# Altium schematic symbol library LT8336EV.Schlib: 1 symbol
Pins are listed as number, name and electrical type; pins without a type are passive.

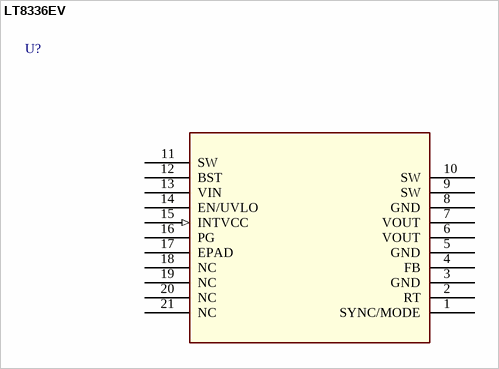
[diagram p0: symbol LT8336EV]

## LT8336EV
designator U?
No Description Available
pins: 1 SYNC/MODE, 2 RT, 3 GND, 4 FB, 5 GND, 6 VOUT (power), 7 VOUT (power), 8 GND, 9 SW, 10 SW, 11 SW, 12 BST, 13 VIN, 14 EN/UVLO, 15 INTVCC (in), 16 PG, 17 EPAD, 18 NC, 19 NC, 20 NC, 21 NC